# EAGLE library part PINHD2X5 (library custom)
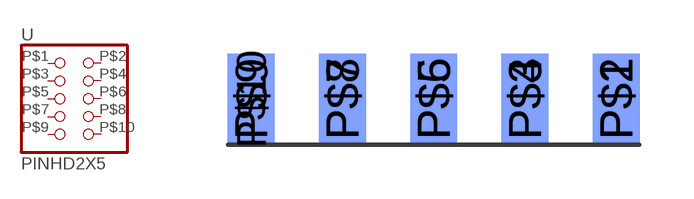
[diagram p18: symbol with the pads of PINHD-2X5-LC; footprint PINHD-2X5-LC]

Designator prefix -

## PINHD2X5  [PINHD-2X5-LC]
P$1  1  pas
P$2  2  pas
P$3  3  pas
P$4  4  pas
P$5  5  pas
P$6  6  pas
P$7  7  pas
P$8  8  pas
P$9  9  pas
P$10  10  pas

## Footprint PINHD-2X5-LC (pad centres in mm)
smd 1.3 x 2.5: P$1 7.62,0; P$3 5.08,0; P$5 2.54,0; P$7 0,0; P$9 -2.54,0
smd 1.3 x 2.5 bottom: P$2 7.62,0; P$4 5.08,0; P$6 2.54,0; P$8 0,0; P$10 -2.54,0